# EAGLE library part MINI_NRF24L01+ (library comp_wirelessnode)
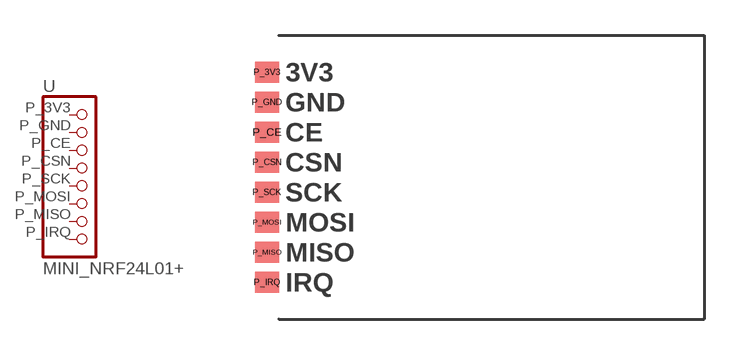
[diagram p4: symbol with the pads of MINI_NRF24L01+; footprint MINI_NRF24L01+]

Designator prefix -

## MINI_NRF24L01+  [MINI_NRF24L01+]
P_3V3  1  pas
P_CE  3  pas
P_CSN  4  pas
P_GND  2  pas
P_IRQ  8  pas
P_MISO  7  pas
P_MOSI  6  pas
P_SCK  5  pas

## Footprint MINI_NRF24L01+ (pad centres in mm)
smd 1 x 0.9: P_3V3 0.5,0; P_CE 0.5,-2.54; P_CSN 0.5,-3.81; P_GND 0.5,-1.27; P_IRQ 0.5,-8.89; P_MISO 0.5,-7.62; P_MOSI 0.5,-6.35; P_SCK 0.5,-5.08